# EAGLE library part 4PCV-06-006 (library 4PCV-06-006)
Body Features: Product Orientation Vertical | Primary Product Color Black | Barrier Strip Style Tri-Barrier | Configuration Features: Number of Rows 1 | Number of Levels 1 | Number of Positions 6 | Contact Features: PCB Contact Termination Area Plating Material Tin | Contact Current Rating (Max) 20 AMP | Contact Base Material Copper Alloy | Dimensions: Product Length 51.07 MM | Wire Size 22 12 AWG | Product Length 2.01 INCH | Wire Size .3 3 MMSQ | Electrical Characteristics: Operating Voltage 150 V Source: Datasheet <https://www.te.com/commerce/DocumentDelivery/DDEController?Action=srchrtrv&DocNm=1-1773458-2_BARRIER_STRIPS_QRG&DocType=Data Sheet&DocLang=English&PartCntxt=8-1437648-0&DocFormat=pdf>
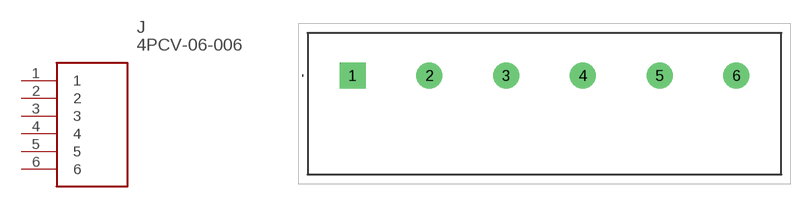
[diagram p0: symbol with the pads of 4PCV06006; footprint 4PCV06006]

Designator prefix J

## 4PCV-06-006 (Description: Body Features: Product Orientation Vertical | Primary Product Color Black | Barrier Strip Style Tri-Barrier | Configuration Features: Number of Rows 1 | Number of Levels 1 | Number of Positions 6 | Contact Features: PCB Contact Termination Area Plating Material Tin | Contact Current Rating (Max) 20 AMP | Contact Base Material Copper Alloy | Dimensions: Product Length 51.07 MM | Wire Size 22 12 AWG | Product Length 2.01 INCH | Wire Size .3 3 MMSQ | Electrical Characteristics: Operating Voltage 150 V; Height: 12.7mm; Manufacturer_Name: TE Connectivity; Manufacturer_Part_Number: 4PCV-06-006)  [4PCV06006]
1  1
2  2
3  3
4  4
5  5
6  6

## Footprint 4PCV06006 (pad centres in mm)
4PCV-06-006-3
drill 1.854 pad 2.781 square: 1 0,0
drill 1.854 pad 2.781: 2 8.255,0; 3 16.51,0; 4 24.765,0; 5 33.02,0; 6 41.275,0